# EAGLE library part LEE_ACS712 (library acs712_breaker)
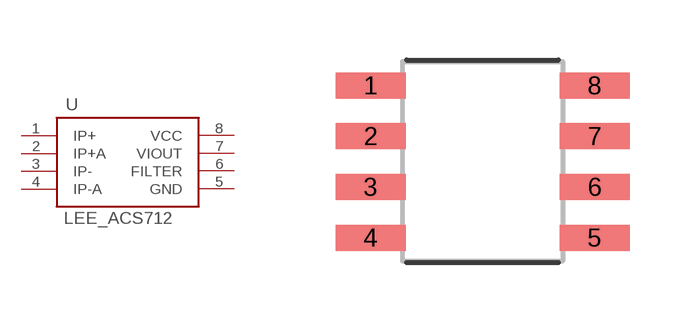
[diagram p1: symbol with the pads of LEE_SOICC; footprint LEE_SOICC]

Designator prefix -

## LEE_ACS712  [LEE_SOICC]
1  IP+
2  IP+A
3  IP-
4  IP-A
5  GND  pwr
6  FILTER
7  VIOUT  out
8  VCC  pwr

## Footprint LEE_SOICC (pad centres in mm)
smd 1.75 x 0.65: 1 -2.8,1.9; 2 -2.8,0.63; 3 -2.8,-0.64; 4 -2.8,-1.91; 5 2.8,-1.91; 6 2.8,-0.64; 7 2.8,0.63; 8 2.8,1.9